# Altium schematic symbol library SATELLITE_4U_LASER_EXT_1.4.0.SchLib: 11 symbols
Pins are listed as number, name and electrical type; pins without a type are passive.

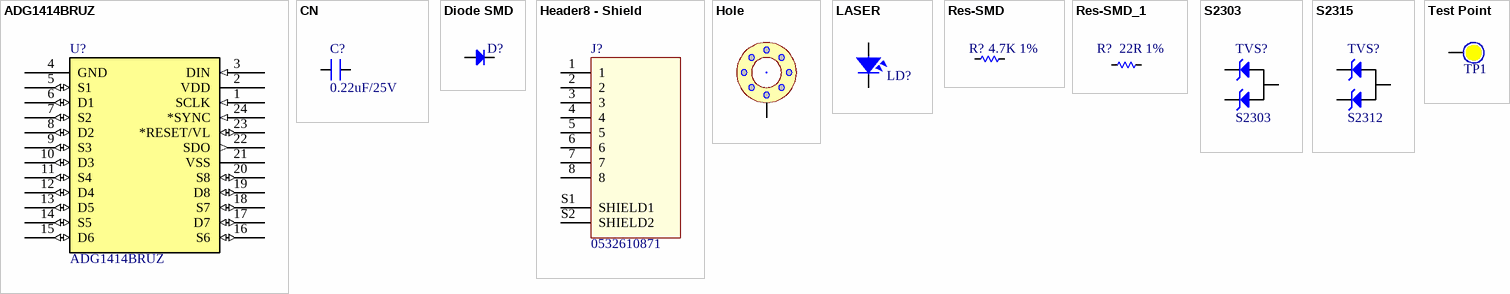
[diagram p0: symbols ADG1414BRUZ to Test Point]

## ADG1414BRUZ
designator U?
IC SW SPST-NOX8 11.5OHM 24TSSOP
footprint TSSOP24 (TSSOP, 24-Leads, Body 7.80x4.40mm, Pitch 0.65mm, IPC High Density)
pins: 1 SCLK (in), 2 VDD (power), 3 DIN (in), 4 GND (power), 5 S1 (io), 6 D1 (io), 7 S2 (io), 8 D2 (io), 9 S3 (io), 10 D3 (io), 11 S4 (io), 12 D4 (io), 13 D5 (io), 14 S5 (io), 15 D6 (io), 16 S6 (io), 17 D7 (io), 18 S7 (io), 19 D8 (io), 20 S8 (io), 21 VSS (power), 22 SDO (out), 23 *RESET/VL (io), 24 *SYNC (in)

## CN
designator C?, comment 0.22uF/25V
CAP CER 0.22UF 25V X7R 0603; Value: 33pF
footprint CN1.5
footprint CN1
footprint CN2.5 (Tu pin to pin 250mil)
footprint CN3 (Cap np W 0.3)
footprint CN-SMD-0603
footprint CN-SMD-0805
footprint CN-SMD-0402
footprint CN-SMD-1206
footprint CN-SMD-2520 (TOKO INDUCTOR DFE252012 SERIES)
footprint CN-SMD-3225 (Chip Capacitor, Body 3.2x2.5mm, IPC Medium Density)
footprint CN2-T
footprint CN2-G
footprint CN0.8
footprint CN1-TA
footprint CN2-B
footprint CN2-LT
footprint CN2-O
footprint CN2-R
footprint CN2.5-BR (Tu pin to pin 250mil)
footprint CN2.5-R (Tu pin to pin 250mil)
footprint CN2.5-RV (Tu pin to pin 250mil)
footprint CN3.5 (Cap np W 0.3)
footprint CN4
footprint CN7 (Cap np W 0.3)
footprint CN3-B (Cap np W 0.3)
footprint CN7-B (Cap np W 0.3)
footprint CN7-N (Cap np W 0.3)
footprint CN7-Y (Cap np W 0.3)
footprint CN15 (Cap np W 0.3)
pins: 1, 2

## Diode SMD
designator D?, comment 1N4148W-TP  (value not drawn)
DIODE STANDARD 100V 150MA SOD123; Code - JEDEC: DO-214-AB; Value: 1N5007; Published: 8-Jun-2000; Revision: July-2002: Re-released for DXP Platform.; Publisher: Altium Limited
footprint DIO-SMD-106
footprint DIO-SMD-123
footprint DIO-SMD-A
footprint DIO-SMD-B (Magnetic-Core Inductor with Winding Polarity Marking; 2 Leads)
footprint DIO-SMD-216AA (DO216AA ST-MITE)
footprint DIO-SMD-222AA (DO216AA ST-MITE)
footprint DIO-SMD-C
footprint SOD123
pins: 1 A, 2 K

## Header8 - Shield
designator J?, comment 0532610871
CONN HEADER SMD R/A 8POS 1.25MM
footprint 0532610871 (CONN HEADER SMD R/A 8POS 1.25MM)
pins: 1, 2, 3, 4, 5, 6, 7, 8, S1 SHIELD1, S2 SHIELD2

## Hole
designator Hole?  (value not drawn)
footprint Hole space
pins: 1

## LASER
designator LD?, comment LaserDiode  (value not drawn)
footprint LASER_SOCKET
footprint laser (Footprint not found)
footprint LASER_SOCKET
pins: 1, 3

## Res-SMD
designator R?, comment 4.7K 1%
RES SMD 4.7K OHM 1% 1/10W 0603; Manufacturer: Generic Components; Class: Passive; Published: 08/06/2000; Publisher: Altium Hobart Technology Centre
footprint RES-SMD-0101
footprint RES-SMD-0201
footprint RES-SMD-0603
footprint RES-SMD-0805
footprint RES-SMD-1206
footprint RES-SMD-1210 (Chip Capacitor, Body 3.2x2.5mm, IPC Medium Density)
footprint RES-SMD-1812 (Chip Capacitor, Body 3.2x2.5mm, IPC Medium Density)
footprint RES-SMD-2010 (Chip Capacitor, Body 3.2x2.5mm, IPC Medium Density)
footprint RES-SMD-2512 (Chip Capacitor, Body 3.2x2.5mm, IPC Medium Density)
footprint RES-SMD-0402
pins: 1, 2

## Res-SMD_1
designator R?, comment 22R 1%
Resistor; Manufacturer: Generic Components; Class: Passive; Published: 08/06/2000; Publisher: Altium Hobart Technology Centre
footprint RES-SMD-0101
footprint RES-SMD-0201
footprint RES-SMD-0603
footprint RES-SMD-0805
footprint RES-SMD-1206
footprint RES-SMD-1210 (Chip Capacitor, Body 3.2x2.5mm, IPC Medium Density)
footprint RES-SMD-1812 (Chip Capacitor, Body 3.2x2.5mm, IPC Medium Density)
footprint RES-SMD-2010 (Chip Capacitor, Body 3.2x2.5mm, IPC Medium Density)
footprint RES-SMD-2512 (Chip Capacitor, Body 3.2x2.5mm, IPC Medium Density)
footprint RES-SMD-0402
pins: 1, 2

## S2303
designator TVS?
TVS DIODE 3.3VWM 8VC SOT233
footprint SOT23-123 (SOT23, 1=bottom-left, 2=top, 3=bottom-right)
pins: 1, 2, 3

## S2315
designator TVS?, comment S2312
TVS DIODE 12VWM 19VC SOT233
footprint SOT23-123 (SOT23, 1=bottom-left, 2=top, 3=bottom-right)
pins: 1, 2, 3

## Test Point
designator TP1  (no BOM)
Test Point; Solder: NF
footprint Testpoint_50
footprint Testpoint_60
footprint Testpoint_70
footprint Testpoint_80
footprint Testpoint_TH_D130H80
footprint TP_1mm_SMD
pins: 1